# Altium integrated library STM32F407G-DISC1.IntLib: 1 symbol
Pins are listed as number, name and electrical type; pins without a type are passive.

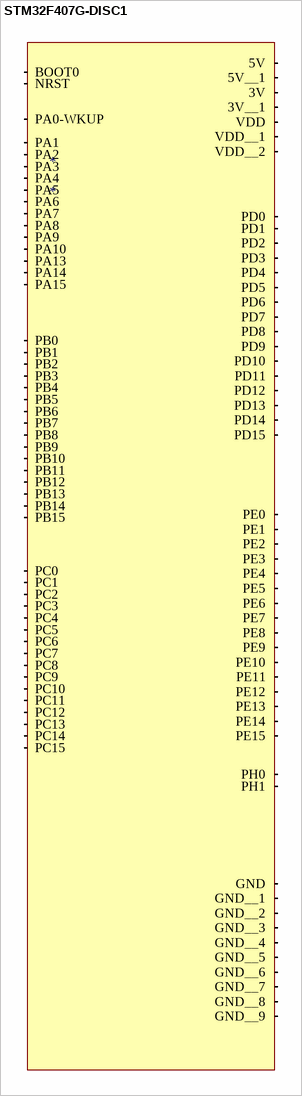
[diagram p0: symbol STM32F407G-DISC1]

## STM32F407G-DISC1
designator *
footprint MODULE_STM32F407G-DISC1
pins: P1_1 GND, P1_2 GND__1, P1_3 VDD, P1_4 VDD__1, P1_5 GND__2, P1_6 NRST, P1_7 PC1, P1_8 PC0, P1_9 PC3, P1_10 PC2, P1_11 PA1, P1_12 PA0-WKUP, P1_13 PA3, P1_14 PA2, P1_15 PA5, P1_16 PA4, P1_17 PA7, P1_18 PA6, P1_19 PC5, P1_20 PC4, P1_21 PB1, P1_22 PB0, P1_23 GND__3, P1_24 PB2, P1_25 PE7, P1_26 PE8, P1_27 PE9, P1_28 PE10, P1_29 PE11, P1_30 PE12, P1_31 PE13, P1_32 PE14, P1_33 PE15, P1_34 PB10, P1_35 PB11, P1_36 PB12, P1_37 PB13, P1_38 PB14, P1_39 PB15, P1_40 PD8, P1_41 PD9, P1_42 PD10, P1_43 PD11, P1_44 PD12, P1_45 PD13, P1_46 PD14, P1_47 PD15, P1_49 GND__4, P1_49 GND__8, P1_50 GND__5, P1_50 GND__9, P2_1 GND__6, P2_2 GND__7, P2_3 5V, P2_4 5V__1, P2_5 3V, P2_6 3V__1, P2_7 PH0, P2_8 PH1, P2_9 PC14, P2_10 PC15, P2_11 PE6, P2_12 PC13, P2_13 PE4, P2_14 PE5, P2_15 PE2, P2_16 PE3, P2_17 PE0, P2_18 PE1, P2_19 PB8, P2_20 PB9, P2_21 BOOT0, P2_22 VDD__2, P2_23 PB6, P2_24 PB7, P2_25 PB4, P2_26 PB5, P2_27 PD7, P2_28 PB3, P2_29 PD5, P2_30 PD6, P2_31 PD3, P2_32 PD4, P2_33 PD1, P2_34 PD2, P2_35 PC12, P2_36 PD0, P2_37 PC10, P2_38 PC11, P2_39 PA14, P2_40 PA15, P2_41 PA10, P2_42 PA13, P2_43 PA8, P2_44 PA9, P2_45 PC8, P2_46 PC9, P2_47 PC6, P2_48 PC7